# EAGLE library part TYPE-C_ALT (library 0_my_parts)
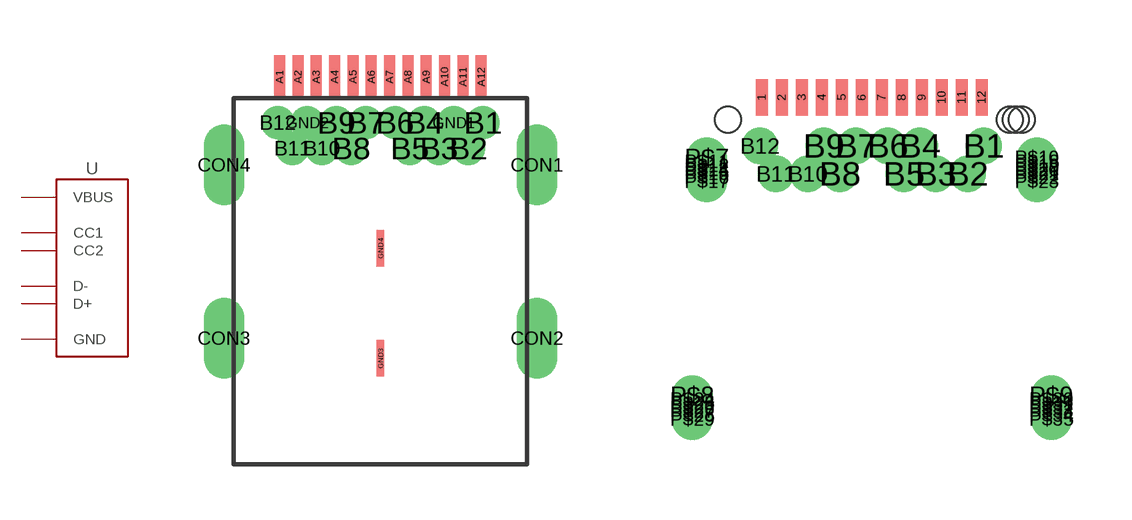
[diagram p9: symbol with the pads of USB-C_WURTH_632723X00011; footprints USB-C_WURTH_632723X00011, USB-TYPE-C-HYBRID]

Designator prefix -

## TYPE-C_ALT  [USB-C_WURTH_632723X00011]
A1  GND
A4  VBUS
A5  CC1
A6  D+
A7  D-
A9  VBUS
A12  GND
B1  GND
B4  VBUS
B5  CC2
B6  D+
B7  D-
B9  VBUS
B12  GND
CON1  GND
CON2  GND
CON3  GND
CON4  GND
GND1  GND
GND2  GND
GND3  GND
GND4  GND

## TYPE-C_ALTTEST  [USB-TYPE-C-HYBRID]
1  CC1
2  CC2
3  D+
4  D-
5  GND
6  VBUS

## Footprint USB-C_WURTH_632723X00011 (pad centres in mm)
smd 0.3 x 1.2: A1 -2.75,10.58; A2 -2.25,10.58; A3 -1.75,10.58; A4 -1.25,10.58; A5 -0.75,10.58; A6 -0.25,10.58; A7 0.25,10.58; A8 0.75,10.58; A9 1.25,10.58; A10 1.75,10.58; A11 2.25,10.58; A12 2.75,10.58
drill 0.4 pad 0.65: B1 2.8,9.33; B2 2.4,8.63; B3 1.6,8.63; B4 1.2,9.33; B5 0.8,8.63; B6 0.4,9.33; B7 -0.4,9.33; B8 -0.8,8.63; B9 -1.2,9.33; B10 -1.6,8.63; B11 -2.4,8.63; B12 -2.8,9.33; GND1 2,9.33; GND2 -2,9.33
drill 0.6 pad 1 long: CON1 4.27,8.18; CON2 4.27,3.45; CON3 -4.27,3.45; CON4 -4.27,8.18
smd 0.2 x 1: GND3 0,2.9; GND4 0,5.9

## Footprint USB-TYPE-C-HYBRID (pad centres in mm)
smd 0.3 x 0.9: 1 -2.75,0.56; 2 -2.25,0.56; 3 -1.75,0.56; 4 -1.25,0.56; 5 -0.75,0.56; 6 -0.25,0.56; 7 0.25,0.56; 8 0.75,0.56; 9 1.25,0.56; 10 1.75,0.56; 11 2.25,0.56; 12 2.75,0.56
drill 0.4 pad 0.59: B1 2.8,-0.65; B2 2.4,-1.35; B3 1.6,-1.35; B4 1.2,-0.65; B5 0.8,-1.35; B6 0.4,-0.65; B7 -0.4,-0.65; B8 -0.8,-1.35; B9 -1.2,-0.65; B10 -1.6,-1.35; B11 -2.4,-1.35; B12 -2.8,-0.65
drill 0.5: P$7 -4.13,-0.95; P$8 -4.49,-6.9; P$9 4.49,-6.9; P$10 4.13,-0.95; P$11 -4.13,-1.05; P$12 -4.13,-1.15; P$13 -4.13,-1.25; P$14 -4.13,-1.25; P$15 -4.13,-1.35; P$16 -4.13,-1.45; P$17 -4.13,-1.55; P$18 4.13,-1.05; P$19 4.13,-1.15; P$20 4.13,-1.25; P$21 4.13,-1.35; P$22 4.13,-1.45; P$23 4.13,-1.55; P$24 -4.49,-7; P$25 -4.49,-7.1; P$26 -4.49,-7.2; P$27 -4.49,-7.3; P$28 -4.49,-7.4; P$29 -4.49,-7.5; P$30 4.49,-7; P$31 4.49,-7.1; P$32 4.49,-7.2; P$33 4.49,-7.3; P$34 4.49,-7.4; P$35 4.49,-7.5
hole 0.65 at -3.6,0
hole 0.65 at 3.45,0
hole 0.65 at 3.75,0
hole 0.65 at 3.6,0